# Altium integrated library MCP2515-E_SO.IntLib: 1 symbol
Pins are listed as number, name and electrical type; pins without a type are passive.

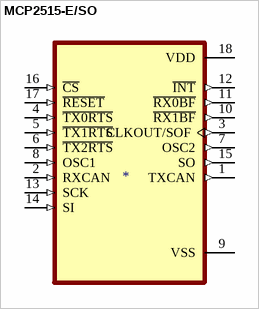
[diagram p0: symbol MCP2515-E/SO]

## MCP2515-E/SO
designator ?
CANbus Controller CAN 2.0 SPI Interface 18-SOIC; MP: MCP2515-E/SO; MF: Microchip; Price: None; Package: SOIC-18 Microchip; Availability: Unavailable; SnapEDA_Link: https://www.snapeda.com/parts/MCP2515-E/SO/Microchip/view-part/100602/?ref=snap; Value: *
footprint SOIC127P1030X265-18N
pins: 1 TXCAN (out), 2 RXCAN (in), 3 CLKOUT/SOF (out), 4 ~{TX0RTS} (in), 5 ~{TX1RTS} (in), 6 ~{TX2RTS} (in), 7 OSC2 (out), 8 OSC1 (in), 9 VSS (power), 10 ~{RX1BF} (out), 11 ~{RX0BF} (out), 12 ~{INT} (out), 13 SCK (in), 14 SI (in), 15 SO (out), 16 ~{CS} (in), 17 ~{RESET} (in), 18 VDD (power)